# Altium schematic symbol library 1-1825027-1.SchLib: 1 symbol
Pins are listed as number, name and electrical type; pins without a type are passive.

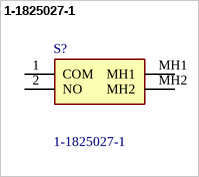
[diagram p0: symbol 1-1825027-1]

## 1-1825027-1
designator S?
Black Button Tactile Switch, Single Pole Single Throw (SPST) 50 mA @ 24 V dc 5.74mm; Manufacturer_Name: TE Connectivity; Geometry.Height: 7.01mm; Manufacturer_Part_Number: 1-1825027-1; Mouser Part Number: *; Mouser Price/Stock: *; Arrow Part Number: 1-1825027-1; Arrow Price/Stock: https://www.arrow.com/en/products/1-1825027-1/te-connectivity?region=europe; Datasheet Link: https://www.te.com/commerce/DocumentDelivery/DDEController?Action=srchrtrv&DocNm=1308111-1_SWITCHES_CORE_PROGRAM_CATALOG&DocType=CS&DocLang=English
footprint 118250271
pins: 1 COM, 2 NO, MH1, MH2